# Altium schematic symbol library SCH - DRIVER - GATE - TI LMG1020 YFF.SchLib: 1 symbol
Pins are listed as number, name and electrical type; pins without a type are passive.

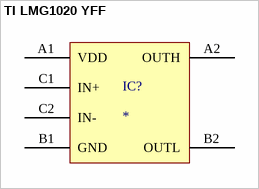
[diagram p0: symbol TI LMG1020 YFF]

## TI LMG1020 YFF
designator IC?
pins: A1 VDD, A2 OUTH, B1 GND, B2 OUTL, C1 IN+, C2 IN-